# EAGLE library part BLACK_PILL (library BlackPill)
STM32F401CC and STM32f411CE based WeAct Black Pill (rev 3.0)
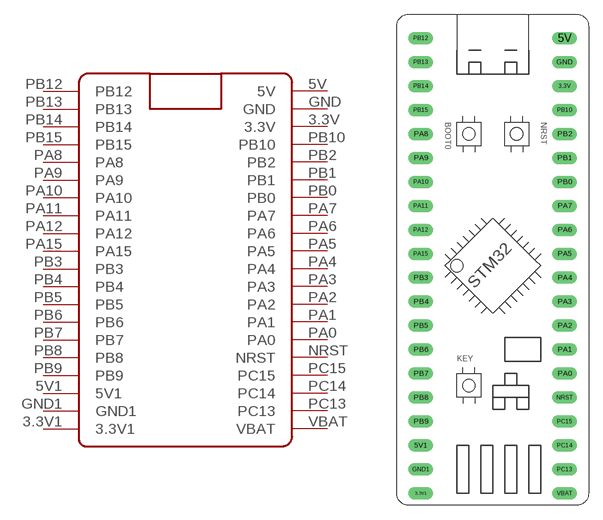
[diagram p0: symbol with the pads of BLACK_PILL; footprint BLACK_PILL]

Designator prefix -

## BLACK_PILL  [BLACK_PILL]
3.3V  3.3V
3.3V1  3.3V1
5V  5V  pwr
5V1  5V1
GND  GND
GND1  GND1
NRST  NRST
PA0  PA0
PA1  PA1
PA2  PA2
PA3  PA3
PA4  PA4
PA5  PA5
PA6  PA6
PA7  PA7
PA8  PA8
PA9  PA9
PA10  PA10
PA11  PA11
PA12  PA12
PA15  PA15
PB0  PB0
PB1  PB1
PB2  PB2
PB3  PB3
PB4  PB4
PB5  PB5
PB6  PB6
PB7  PB7
PB8  PB8
PB9  PB9
PB10  PB10
PB12  PB12
PB13  PB13
PB14  PB14
PB15  PB15
PC13  PC13
PC14  PC14
PC15  PC15
VBAT  VBAT

## Footprint BLACK_PILL (pad centres in mm)
STM32F401CC and STM32f411CE based WeAct Black Pill (rev 3.0)
drill 0.8 long: 3.3V 7.62,10.16; 3.3V1 -7.62,-33.02; 5V 7.62,15.24; 5V1 -7.62,-27.94; GND 7.62,12.7; GND1 -7.62,-30.48; NRST 7.62,-22.86; PA0 7.62,-20.32; PA1 7.62,-17.78; PA2 7.62,-15.24; PA3 7.62,-12.7; PA4 7.62,-10.16; PA5 7.62,-7.62; PA6 7.62,-5.08; PA7 7.62,-2.54; PA8 -7.62,5.08; PA9 -7.62,2.54; PA10 -7.62,0; PA11 -7.62,-2.54; PA12 -7.62,-5.08; PA15 -7.62,-7.62; PB0 7.62,0; PB1 7.62,2.54; PB2 7.62,5.08; PB3 -7.62,-10.16; PB4 -7.62,-12.7; PB5 -7.62,-15.24; PB6 -7.62,-17.78; PB7 -7.62,-20.32; PB8 -7.62,-22.86; PB9 -7.62,-25.4; PB10 7.62,7.62; PB12 -7.62,15.24; PB13 -7.62,12.7; PB14 -7.62,10.16; PB15 -7.62,7.62; PC13 7.62,-30.48; PC14 7.62,-27.94; PC15 7.62,-25.4; VBAT 7.62,-33.02